# Altium schematic symbol library WE-PDA.SchLib: 53 symbols
Pins are listed as number, name and electrical type; pins without a type are passive.

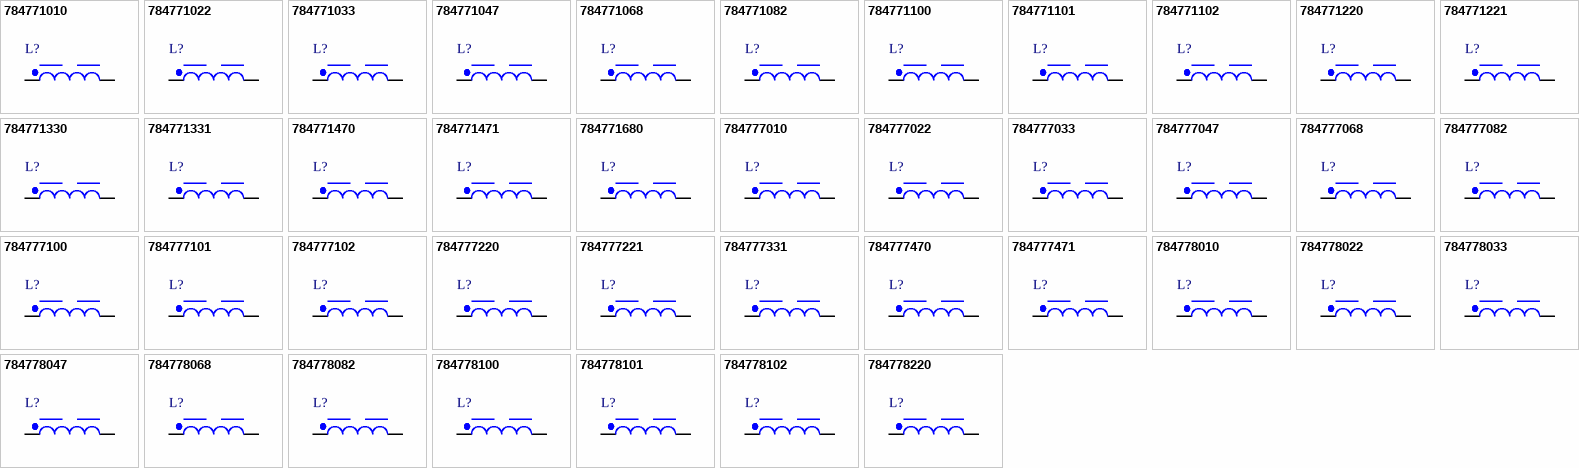
[diagram p0: symbols 784771010 to 784778220]

## 784771010
designator L?, comment 1uH  (value not drawn)
WE-PDA SMT Shielded Power Inductor, size 1260, 1uH, 9A, 8.5mOhm; Manufacturer Part Number: 784771010; Manufacturer: Wurth Elektronik; Case/Size Code: 1260; Saturation Current: 16.5A; Self Resonant Frequency: 139.4MHz; Category: Power Inductors; Match Code: WE-PDA; ComponentLink1Description: Website Link; ComponentLink1URL: https://www.we-online.com/redexpert/article/784771010?ad; ComponentLink2Description: Datasheet Link; ComponentLink2URL: https://www.we-online.com/redexpert/spec/784771010?ad; Mount: Surface Mount; Min Operating Temperature: -40°C; Max Operating Temperature: 125°C; Packaging: Tape and Reel; Length: 12mm; Width: 12mm; Height: 6mm; DC Resistance Max: 8.5mOhm; Inductance: 1uH; Rated Current: 9A
footprint WE-PDA_1260
simulation model 1260_784771010_1u
pins: 1, 2

## 784771022
designator L?, comment 2.2uH  (value not drawn)
WE-PDA SMT Shielded Power Inductor, size 1260, 2.2uH, 7.2A, 12.5mOhm; Manufacturer Part Number: 784771022; Manufacturer: Wurth Elektronik; Case/Size Code: 1260; Saturation Current: 10.5A; Self Resonant Frequency: 82.7MHz; Category: Power Inductors; Match Code: WE-PDA; ComponentLink1Description: Website Link; ComponentLink1URL: https://www.we-online.com/redexpert/article/784771022?ad; ComponentLink2Description: Datasheet Link; ComponentLink2URL: https://www.we-online.com/redexpert/spec/784771022?ad; Mount: Surface Mount; Min Operating Temperature: -40°C; Max Operating Temperature: 125°C; Packaging: Tape and Reel; Length: 12mm; Width: 12mm; Height: 6mm; DC Resistance Max: 12.5mOhm; Inductance: 2.2uH; Rated Current: 7.2A
footprint WE-PDA_1260
simulation model 1260_784771022_2.2u
pins: 1, 2

## 784771033
designator L?, comment 3.3uH  (value not drawn)
WE-PDA SMT Shielded Power Inductor, size 1260, 3.3uH, 6.5A, 14.5mOhm; Manufacturer Part Number: 784771033; Manufacturer: Wurth Elektronik; Case/Size Code: 1260; Saturation Current: 9A; Self Resonant Frequency: 68.1MHz; Category: Power Inductors; Match Code: WE-PDA; ComponentLink1Description: Website Link; ComponentLink1URL: https://www.we-online.com/redexpert/article/784771033?ad; ComponentLink2Description: Datasheet Link; ComponentLink2URL: https://www.we-online.com/redexpert/spec/784771033?ad; Mount: Surface Mount; Min Operating Temperature: -40°C; Max Operating Temperature: 125°C; Packaging: Tape and Reel; Length: 12mm; Width: 12mm; Height: 6mm; DC Resistance Max: 14.5mOhm; Inductance: 3.3uH; Rated Current: 6.5A
footprint WE-PDA_1260
simulation model 1260_784771033_3.3u
pins: 1, 2

## 784771047
designator L?, comment 4.7uH  (value not drawn)
WE-PDA SMT Shielded Power Inductor, size 1260, 4.7uH, 6.2A, 17.5mOhm; Manufacturer Part Number: 784771047; Manufacturer: Wurth Elektronik; Case/Size Code: 1260; Saturation Current: 8A; Self Resonant Frequency: 49.8MHz; Category: Power Inductors; Match Code: WE-PDA; ComponentLink1Description: Website Link; ComponentLink1URL: https://www.we-online.com/redexpert/article/784771047?ad; ComponentLink2Description: Datasheet Link; ComponentLink2URL: https://www.we-online.com/redexpert/spec/784771047?ad; Mount: Surface Mount; Min Operating Temperature: -40°C; Max Operating Temperature: 125°C; Packaging: Tape and Reel; Length: 12mm; Width: 12mm; Height: 6mm; DC Resistance Max: 17.5mOhm; Inductance: 4.7uH; Rated Current: 6.2A
footprint WE-PDA_1260
simulation model 1260_784771047_4.7u
pins: 1, 2

## 784771068
designator L?, comment 6.8uH  (value not drawn)
WE-PDA SMT Shielded Power Inductor, size 1260, 6.8uH, 5.5A, 21.5mOhm; Manufacturer Part Number: 784771068; Manufacturer: Wurth Elektronik; Case/Size Code: 1260; Saturation Current: 6A; Self Resonant Frequency: 25.5MHz; Category: Power Inductors; Match Code: WE-PDA; ComponentLink1Description: Website Link; ComponentLink1URL: https://www.we-online.com/redexpert/article/784771068?ad; ComponentLink2Description: Datasheet Link; ComponentLink2URL: https://www.we-online.com/redexpert/spec/784771068?ad; Mount: Surface Mount; Min Operating Temperature: -40°C; Max Operating Temperature: 125°C; Packaging: Tape and Reel; Length: 12mm; Width: 12mm; Height: 6mm; DC Resistance Max: 21.5mOhm; Inductance: 6.8uH; Rated Current: 5.5A
footprint WE-PDA_1260
simulation model 1260_784771068_6.8u
pins: 1, 2

## 784771082
designator L?, comment 8.2uH  (value not drawn)
WE-PDA SMT Shielded Power Inductor, size 1260, 8.2uH, 5.05A, 24mOhm; Manufacturer Part Number: 784771082; Manufacturer: Wurth Elektronik; Case/Size Code: 1260; Saturation Current: 5.5A; Self Resonant Frequency: 25.2MHz; Category: Power Inductors; Match Code: WE-PDA; ComponentLink1Description: Website Link; ComponentLink1URL: https://www.we-online.com/redexpert/article/784771082?ad; ComponentLink2Description: Datasheet Link; ComponentLink2URL: https://www.we-online.com/redexpert/spec/784771082?ad; Mount: Surface Mount; Min Operating Temperature: -40°C; Max Operating Temperature: 125°C; Packaging: Tape and Reel; Length: 12mm; Width: 12mm; Height: 6mm; DC Resistance Max: 24mOhm; Inductance: 8.2uH; Rated Current: 5.05A
footprint WE-PDA_1260
simulation model 1260_784771082_8.2u
pins: 1, 2

## 784771100
designator L?, comment 10uH  (value not drawn)
WE-PDA SMT Shielded Power Inductor, size 1260, 10uH, 5A, 26.5mOhm; Manufacturer Part Number: 784771100; Manufacturer: Wurth Elektronik; Case/Size Code: 1260; Saturation Current: 5.25A; Self Resonant Frequency: 22.3MHz; Category: Power Inductors; Match Code: WE-PDA; ComponentLink1Description: Website Link; ComponentLink1URL: https://www.we-online.com/redexpert/article/784771100?ad; ComponentLink2Description: Datasheet Link; ComponentLink2URL: https://www.we-online.com/redexpert/spec/784771100?ad; Mount: Surface Mount; Min Operating Temperature: -40°C; Max Operating Temperature: 125°C; Packaging: Tape and Reel; Length: 12mm; Width: 12mm; Height: 6mm; DC Resistance Max: 26.5mOhm; Inductance: 10uH; Rated Current: 5A
footprint WE-PDA_1260
simulation model 1260_784771100_10u
pins: 1, 2

## 784771101
designator L?, comment 100uH  (value not drawn)
WE-PDA SMT Shielded Power Inductor, size 1260, 100uH, 1.5A, 174mOhm; Manufacturer Part Number: 784771101; Manufacturer: Wurth Elektronik; Case/Size Code: 1260; Saturation Current: 1.7A; Self Resonant Frequency: 6.5MHz; Category: Power Inductors; Match Code: WE-PDA; ComponentLink1Description: Website Link; ComponentLink1URL: https://www.we-online.com/redexpert/article/784771101?ad; ComponentLink2Description: Datasheet Link; ComponentLink2URL: https://www.we-online.com/redexpert/spec/784771101?ad; Mount: Surface Mount; Min Operating Temperature: -40°C; Max Operating Temperature: 125°C; Packaging: Tape and Reel; Length: 12mm; Width: 12mm; Height: 6mm; DC Resistance Max: 174mOhm; Inductance: 100uH; Rated Current: 1.5A
footprint WE-PDA_1260
simulation model 1260_784771101_100u
pins: 1, 2

## 784771102
designator L?, comment 1000uH  (value not drawn)
WE-PDA SMT Shielded Power Inductor, size 1260, 1000uH, 0.48A, 1705mOhm; Manufacturer Part Number: 784771102; Manufacturer: Wurth Elektronik; Case/Size Code: 1260; Saturation Current: 0.53A; Self Resonant Frequency: 1.9MHz; Category: Power Inductors; Match Code: WE-PDA; ComponentLink1Description: Website Link; ComponentLink1URL: https://www.we-online.com/redexpert/article/784771102?ad; ComponentLink2Description: Datasheet Link; ComponentLink2URL: https://www.we-online.com/redexpert/spec/784771102?ad; Mount: Surface Mount; Min Operating Temperature: -40°C; Max Operating Temperature: 125°C; Packaging: Tape and Reel; Length: 12mm; Width: 12mm; Height: 6mm; DC Resistance Max: 1705mOhm; Inductance: 1000uH; Rated Current: 0.48A
footprint WE-PDA_1260
simulation model 1260_784771102_1000u
pins: 1, 2

## 784771220
designator L?, comment 22uH  (value not drawn)
WE-PDA SMT Shielded Power Inductor, size 1260, 22uH, 3.2A, 40mOhm; Manufacturer Part Number: 784771220; Manufacturer: Wurth Elektronik; Case/Size Code: 1260; Saturation Current: 3.5A; Self Resonant Frequency: 14.9MHz; Category: Power Inductors; Match Code: WE-PDA; ComponentLink1Description: Website Link; ComponentLink1URL: https://www.we-online.com/redexpert/article/784771220?ad; ComponentLink2Description: Datasheet Link; ComponentLink2URL: https://www.we-online.com/redexpert/spec/784771220?ad; Mount: Surface Mount; Min Operating Temperature: -40°C; Max Operating Temperature: 125°C; Packaging: Tape and Reel; Length: 12mm; Width: 12mm; Height: 6mm; DC Resistance Max: 40mOhm; Inductance: 22uH; Rated Current: 3.2A
footprint WE-PDA_1260
simulation model 1260_784771220_22u
pins: 1, 2

## 784771221
designator L?, comment 220uH  (value not drawn)
WE-PDA SMT Shielded Power Inductor, size 1260, 220uH, 0.99A, 348mOhm; Manufacturer Part Number: 784771221; Manufacturer: Wurth Elektronik; Case/Size Code: 1260; Saturation Current: 1.1A; Self Resonant Frequency: 3.9MHz; Category: Power Inductors; Match Code: WE-PDA; ComponentLink1Description: Website Link; ComponentLink1URL: https://www.we-online.com/redexpert/article/784771221?ad; ComponentLink2Description: Datasheet Link; ComponentLink2URL: https://www.we-online.com/redexpert/spec/784771221?ad; Mount: Surface Mount; Min Operating Temperature: -40°C; Max Operating Temperature: 125°C; Packaging: Tape and Reel; Length: 12mm; Width: 12mm; Height: 6mm; DC Resistance Max: 348mOhm; Inductance: 220uH; Rated Current: 0.99A
footprint WE-PDA_1260
simulation model 1260_784771221_220u
pins: 1, 2

## 784771330
designator L?, comment 33uH  (value not drawn)
WE-PDA SMT Shielded Power Inductor, size 1260, 33uH, 2.8A, 62.5mOhm; Manufacturer Part Number: 784771330; Manufacturer: Wurth Elektronik; Case/Size Code: 1260; Saturation Current: 2.9A; Self Resonant Frequency: 11.5MHz; Category: Power Inductors; Match Code: WE-PDA; ComponentLink1Description: Website Link; ComponentLink1URL: https://www.we-online.com/redexpert/article/784771330?ad; ComponentLink2Description: Datasheet Link; ComponentLink2URL: https://www.we-online.com/redexpert/spec/784771330?ad; Mount: Surface Mount; Min Operating Temperature: -40°C; Max Operating Temperature: 125°C; Packaging: Tape and Reel; Length: 12mm; Width: 12mm; Height: 6mm; DC Resistance Max: 62.5mOhm; Inductance: 33uH; Rated Current: 2.8A
footprint WE-PDA_1260
simulation model 1260_784771330_33u
pins: 1, 2

## 784771331
designator L?, comment 330uH  (value not drawn)
WE-PDA SMT Shielded Power Inductor, size 1260, 330uH, 0.8A, 594mOhm; Manufacturer Part Number: 784771331; Manufacturer: Wurth Elektronik; Case/Size Code: 1260; Saturation Current: 0.9A; Self Resonant Frequency: 3.3MHz; Category: Power Inductors; Match Code: WE-PDA; ComponentLink1Description: Website Link; ComponentLink1URL: https://www.we-online.com/redexpert/article/784771331?ad; ComponentLink2Description: Datasheet Link; ComponentLink2URL: https://www.we-online.com/redexpert/spec/784771331?ad; Mount: Surface Mount; Min Operating Temperature: -40°C; Max Operating Temperature: 125°C; Packaging: Tape and Reel; Length: 12mm; Width: 12mm; Height: 6mm; DC Resistance Max: 594mOhm; Inductance: 330uH; Rated Current: 0.8A
footprint WE-PDA_1260
simulation model 1260_784771331_330u
pins: 1, 2

## 784771470
designator L?, comment 47uH  (value not drawn)
WE-PDA SMT Shielded Power Inductor, size 1260, 47uH, 2.3A, 77mOhm; Manufacturer Part Number: 784771470; Manufacturer: Wurth Elektronik; Case/Size Code: 1260; Saturation Current: 2.5A; Self Resonant Frequency: 10.1MHz; Category: Power Inductors; Match Code: WE-PDA; ComponentLink1Description: Website Link; ComponentLink1URL: https://www.we-online.com/redexpert/article/784771470?ad; ComponentLink2Description: Datasheet Link; ComponentLink2URL: https://www.we-online.com/redexpert/spec/784771470?ad; Mount: Surface Mount; Min Operating Temperature: -40°C; Max Operating Temperature: 125°C; Packaging: Tape and Reel; Length: 12mm; Width: 12mm; Height: 6mm; DC Resistance Max: 77mOhm; Inductance: 47uH; Rated Current: 2.3A
footprint WE-PDA_1260
simulation model 1260_784771470_47u
pins: 1, 2

## 784771471
designator L?, comment 470uH  (value not drawn)
WE-PDA SMT Shielded Power Inductor, size 1260, 470uH, 0.65A, 706mOhm; Manufacturer Part Number: 784771471; Manufacturer: Wurth Elektronik; Case/Size Code: 1260; Saturation Current: 0.75A; Self Resonant Frequency: 2.9MHz; Category: Power Inductors; Match Code: WE-PDA; ComponentLink1Description: Website Link; ComponentLink1URL: https://www.we-online.com/redexpert/article/784771471?ad; ComponentLink2Description: Datasheet Link; ComponentLink2URL: https://www.we-online.com/redexpert/spec/784771471?ad; Mount: Surface Mount; Min Operating Temperature: -40°C; Max Operating Temperature: 125°C; Packaging: Tape and Reel; Length: 12mm; Width: 12mm; Height: 6mm; DC Resistance Max: 706mOhm; Inductance: 470uH; Rated Current: 0.65A
footprint WE-PDA_1260
simulation model 1260_784771471_470u
pins: 1, 2

## 784771680
designator L?, comment 68uH  (value not drawn)
WE-PDA SMT Shielded Power Inductor, size 1260, 68uH, 1.8A, 138mOhm; Manufacturer Part Number: 784771680; Manufacturer: Wurth Elektronik; Case/Size Code: 1260; Saturation Current: 2A; Self Resonant Frequency: 8MHz; Category: Power Inductors; Match Code: WE-PDA; ComponentLink1Description: Website Link; ComponentLink1URL: https://www.we-online.com/redexpert/article/784771680?ad; ComponentLink2Description: Datasheet Link; ComponentLink2URL: https://www.we-online.com/redexpert/spec/784771680?ad; Mount: Surface Mount; Min Operating Temperature: -40°C; Max Operating Temperature: 125°C; Packaging: Tape and Reel; Length: 12mm; Width: 12mm; Height: 6mm; DC Resistance Max: 138mOhm; Inductance: 68uH; Rated Current: 1.8A
footprint WE-PDA_1260
simulation model 1260_784771680_68u
pins: 1, 2

## 784777010
designator L?, comment 1uH  (value not drawn)
WE-PDA SMT Shielded Power Inductor, size 7345, 1uH, 3.7A, 38.5mOhm; Manufacturer Part Number: 784777010; Manufacturer: Wurth Elektronik; Case/Size Code: 7345; Saturation Current: 8A; Self Resonant Frequency: 195MHz; Category: Power Inductors; Match Code: WE-PDA; ComponentLink1Description: Website Link; ComponentLink1URL: https://www.we-online.com/redexpert/article/784777010?ad; ComponentLink2Description: Datasheet Link; ComponentLink2URL: https://www.we-online.com/redexpert/spec/784777010?ad; Mount: Surface Mount; Min Operating Temperature: -40°C; Max Operating Temperature: 125°C; Packaging: Tape and Reel; Length: 7.3mm; Width: 7.3mm; Height: 4mm; DC Resistance Max: 38.5mOhm; Inductance: 1uH; Rated Current: 3.7A
footprint WE-PDA_7345
simulation model 7345_784777010_1u
pins: 1, 2

## 784777022
designator L?, comment 2.2uH  (value not drawn)
WE-PDA SMT Shielded Power Inductor, size 7345, 2.2uH, 2.7A, 61mOhm; Manufacturer Part Number: 784777022; Manufacturer: Wurth Elektronik; Case/Size Code: 7345; Saturation Current: 5.25A; Self Resonant Frequency: 95.2MHz; Category: Power Inductors; Match Code: WE-PDA; ComponentLink1Description: Website Link; ComponentLink1URL: https://www.we-online.com/redexpert/article/784777022?ad; ComponentLink2Description: Datasheet Link; ComponentLink2URL: https://www.we-online.com/redexpert/spec/784777022?ad; Mount: Surface Mount; Min Operating Temperature: -40°C; Max Operating Temperature: 125°C; Packaging: Tape and Reel; Length: 7.3mm; Width: 7.3mm; Height: 4mm; DC Resistance Max: 61mOhm; Inductance: 2.2uH; Rated Current: 2.7A
footprint WE-PDA_7345
simulation model 7345_784777022_2.2u
pins: 1, 2

## 784777033
designator L?, comment 3.3uH  (value not drawn)
WE-PDA SMT Shielded Power Inductor, size 7345, 3.3uH, 2.5A, 70mOhm; Manufacturer Part Number: 784777033; Manufacturer: Wurth Elektronik; Case/Size Code: 7345; Saturation Current: 4.7A; Self Resonant Frequency: 87.5MHz; Category: Power Inductors; Match Code: WE-PDA; ComponentLink1Description: Website Link; ComponentLink1URL: https://www.we-online.com/redexpert/article/784777033?ad; ComponentLink2Description: Datasheet Link; ComponentLink2URL: https://www.we-online.com/redexpert/spec/784777033?ad; Mount: Surface Mount; Min Operating Temperature: -40°C; Max Operating Temperature: 125°C; Packaging: Tape and Reel; Length: 7.3mm; Width: 7.3mm; Height: 4mm; DC Resistance Max: 70mOhm; Inductance: 3.3uH; Rated Current: 2.5A
footprint WE-PDA_7345
simulation model 7345_784777033_3.3u
pins: 1, 2

## 784777047
designator L?, comment 4.7uH  (value not drawn)
WE-PDA SMT Shielded Power Inductor, size 7345, 4.7uH, 2.35A, 84mOhm; Manufacturer Part Number: 784777047; Manufacturer: Wurth Elektronik; Case/Size Code: 7345; Saturation Current: 3.7A; Self Resonant Frequency: 64.7MHz; Category: Power Inductors; Match Code: WE-PDA; ComponentLink1Description: Website Link; ComponentLink1URL: https://www.we-online.com/redexpert/article/784777047?ad; ComponentLink2Description: Datasheet Link; ComponentLink2URL: https://www.we-online.com/redexpert/spec/784777047?ad; Mount: Surface Mount; Min Operating Temperature: -40°C; Max Operating Temperature: 125°C; Packaging: Tape and Reel; Length: 7.3mm; Width: 7.3mm; Height: 4mm; DC Resistance Max: 84mOhm; Inductance: 4.7uH; Rated Current: 2.35A
footprint WE-PDA_7345
simulation model 7345_784777047_4.7u
pins: 1, 2

## 784777068
designator L?, comment 6.8uH  (value not drawn)
WE-PDA SMT Shielded Power Inductor, size 7345, 6.8uH, 2.2A, 98mOhm; Manufacturer Part Number: 784777068; Manufacturer: Wurth Elektronik; Case/Size Code: 7345; Saturation Current: 3.2A; Self Resonant Frequency: 47.3MHz; Category: Power Inductors; Match Code: WE-PDA; ComponentLink1Description: Website Link; ComponentLink1URL: https://www.we-online.com/redexpert/article/784777068?ad; ComponentLink2Description: Datasheet Link; ComponentLink2URL: https://www.we-online.com/redexpert/spec/784777068?ad; Mount: Surface Mount; Min Operating Temperature: -40°C; Max Operating Temperature: 125°C; Packaging: Tape and Reel; Length: 7.3mm; Width: 7.3mm; Height: 4mm; DC Resistance Max: 98mOhm; Inductance: 6.8uH; Rated Current: 2.2A
footprint WE-PDA_7345
simulation model 7345_784777068_6.8u
pins: 1, 2

## 784777082
designator L?, comment 8.2uH  (value not drawn)
WE-PDA SMT Shielded Power Inductor, size 7345, 8.2uH, 2A, 117mOhm; Manufacturer Part Number: 784777082; Manufacturer: Wurth Elektronik; Case/Size Code: 7345; Saturation Current: 2.8A; Self Resonant Frequency: 36.7MHz; Category: Power Inductors; Match Code: WE-PDA; ComponentLink1Description: Website Link; ComponentLink1URL: https://www.we-online.com/redexpert/article/784777082?ad; ComponentLink2Description: Datasheet Link; ComponentLink2URL: https://www.we-online.com/redexpert/spec/784777082?ad; Mount: Surface Mount; Min Operating Temperature: -40°C; Max Operating Temperature: 125°C; Packaging: Tape and Reel; Length: 7.3mm; Width: 7.3mm; Height: 4mm; DC Resistance Max: 117mOhm; Inductance: 8.2uH; Rated Current: 2A
footprint WE-PDA_7345
simulation model 7345_784777082_8.2u
pins: 1, 2

## 784777100
designator L?, comment 10uH  (value not drawn)
WE-PDA SMT Shielded Power Inductor, size 7345, 10uH, 1.9A, 126mOhm; Manufacturer Part Number: 784777100; Manufacturer: Wurth Elektronik; Case/Size Code: 7345; Saturation Current: 2.6A; Self Resonant Frequency: 32.5MHz; Category: Power Inductors; Match Code: WE-PDA; ComponentLink1Description: Website Link; ComponentLink1URL: https://www.we-online.com/redexpert/article/784777100?ad; ComponentLink2Description: Datasheet Link; ComponentLink2URL: https://www.we-online.com/redexpert/spec/784777100?ad; Mount: Surface Mount; Min Operating Temperature: -40°C; Max Operating Temperature: 125°C; Packaging: Tape and Reel; Length: 7.3mm; Width: 7.3mm; Height: 4mm; DC Resistance Max: 126mOhm; Inductance: 10uH; Rated Current: 1.9A
footprint WE-PDA_7345
simulation model 7345_784777100_10u
pins: 1, 2

## 784777101
designator L?, comment 100uH  (value not drawn)
WE-PDA SMT Shielded Power Inductor, size 7345, 100uH, 0.72A, 470mOhm; Manufacturer Part Number: 784777101; Manufacturer: Wurth Elektronik; Case/Size Code: 7345; Saturation Current: 0.8A; Self Resonant Frequency: 7.5MHz; Category: Power Inductors; Match Code: WE-PDA; ComponentLink1Description: Website Link; ComponentLink1URL: https://www.we-online.com/redexpert/article/784777101?ad; ComponentLink2Description: Datasheet Link; ComponentLink2URL: https://www.we-online.com/redexpert/spec/784777101?ad; Mount: Surface Mount; Min Operating Temperature: -40°C; Max Operating Temperature: 125°C; Packaging: Tape and Reel; Length: 7.3mm; Width: 7.3mm; Height: 4mm; DC Resistance Max: 470mOhm; Inductance: 100uH; Rated Current: 0.72A
footprint WE-PDA_7345
simulation model 7345_784777101_100u
pins: 1, 2

## 784777102
designator L?, comment 1000uH  (value not drawn)
WE-PDA SMT Shielded Power Inductor, size 7345, 1000uH, 0.25A, 5750mOhm; Manufacturer Part Number: 784777102; Manufacturer: Wurth Elektronik; Case/Size Code: 7345; Saturation Current: 0.28A; Self Resonant Frequency: 2MHz; Category: Power Inductors; Match Code: WE-PDA; ComponentLink1Description: Website Link; ComponentLink1URL: https://www.we-online.com/redexpert/article/784777102?ad; ComponentLink2Description: Datasheet Link; ComponentLink2URL: https://www.we-online.com/redexpert/spec/784777102?ad; Mount: Surface Mount; Min Operating Temperature: -40°C; Max Operating Temperature: 125°C; Packaging: Tape and Reel; Length: 7.3mm; Width: 7.3mm; Height: 4mm; DC Resistance Max: 5750mOhm; Inductance: 1000uH; Rated Current: 0.25A
footprint WE-PDA_7345
simulation model 7345_784777102_1000u
pins: 1, 2

## 784777220
designator L?, comment 22uH  (value not drawn)
WE-PDA SMT Shielded Power Inductor, size 7345, 22uH, 1.4A, 215mOhm; Manufacturer Part Number: 784777220; Manufacturer: Wurth Elektronik; Case/Size Code: 7345; Saturation Current: 1.8A; Self Resonant Frequency: 18.5MHz; Category: Power Inductors; Match Code: WE-PDA; ComponentLink1Description: Website Link; ComponentLink1URL: https://www.we-online.com/redexpert/article/784777220?ad; ComponentLink2Description: Datasheet Link; ComponentLink2URL: https://www.we-online.com/redexpert/spec/784777220?ad; Mount: Surface Mount; Min Operating Temperature: -40°C; Max Operating Temperature: 125°C; Packaging: Tape and Reel; Length: 7.3mm; Width: 7.3mm; Height: 4mm; DC Resistance Max: 215mOhm; Inductance: 22uH; Rated Current: 1.4A
footprint WE-PDA_7345
simulation model 7345_784777220_22u
pins: 1, 2

## 784777221
designator L?, comment 220uH  (value not drawn)
WE-PDA SMT Shielded Power Inductor, size 7345, 220uH, 0.5A, 1135mOhm; Manufacturer Part Number: 784777221; Manufacturer: Wurth Elektronik; Case/Size Code: 7345; Saturation Current: 0.55A; Self Resonant Frequency: 3.9MHz; Category: Power Inductors; Match Code: WE-PDA; ComponentLink1Description: Website Link; ComponentLink1URL: https://www.we-online.com/redexpert/article/784777221?ad; ComponentLink2Description: Datasheet Link; ComponentLink2URL: https://www.we-online.com/redexpert/spec/784777221?ad; Mount: Surface Mount; Min Operating Temperature: -40°C; Max Operating Temperature: 125°C; Packaging: Tape and Reel; Length: 7.3mm; Width: 7.3mm; Height: 4mm; DC Resistance Max: 1135mOhm; Inductance: 220uH; Rated Current: 0.5A
footprint WE-PDA_7345
simulation model 7345_784777221_220u
pins: 1, 2

## 784777331
designator L?, comment 330uH  (value not drawn)
WE-PDA SMT Shielded Power Inductor, size 7345, 330uH, 0.4A, 1872mOhm; Manufacturer Part Number: 784777331; Manufacturer: Wurth Elektronik; Case/Size Code: 7345; Saturation Current: 0.45A; Self Resonant Frequency: 4.2MHz; Category: Power Inductors; Match Code: WE-PDA; ComponentLink1Description: Website Link; ComponentLink1URL: https://www.we-online.com/redexpert/article/784777331?ad; ComponentLink2Description: Datasheet Link; ComponentLink2URL: https://www.we-online.com/redexpert/spec/784777331?ad; Mount: Surface Mount; Min Operating Temperature: -40°C; Max Operating Temperature: 125°C; Packaging: Tape and Reel; Length: 7.3mm; Width: 7.3mm; Height: 4mm; DC Resistance Max: 1872mOhm; Inductance: 330uH; Rated Current: 0.4A
footprint WE-PDA_7345
simulation model 7345_784777331_330u
pins: 1, 2

## 784777470
designator L?, comment 47uH  (value not drawn)
WE-PDA SMT Shielded Power Inductor, size 7345, 47uH, 1.15A, 300mOhm; Manufacturer Part Number: 784777470; Manufacturer: Wurth Elektronik; Case/Size Code: 7345; Saturation Current: 1.25A; Self Resonant Frequency: 10MHz; Category: Power Inductors; Match Code: WE-PDA; ComponentLink1Description: Website Link; ComponentLink1URL: https://www.we-online.com/redexpert/article/784777470?ad; ComponentLink2Description: Datasheet Link; ComponentLink2URL: https://www.we-online.com/redexpert/spec/784777470?ad; Mount: Surface Mount; Min Operating Temperature: -40°C; Max Operating Temperature: 125°C; Packaging: Tape and Reel; Length: 7.3mm; Width: 7.3mm; Height: 4mm; DC Resistance Max: 300mOhm; Inductance: 47uH; Rated Current: 1.15A
footprint WE-PDA_7345
simulation model 7345_784777470_47u
pins: 1, 2

## 784777471
designator L?, comment 470uH  (value not drawn)
WE-PDA SMT Shielded Power Inductor, size 7345, 470uH, 0.35A, 2720mOhm; Manufacturer Part Number: 784777471; Manufacturer: Wurth Elektronik; Case/Size Code: 7345; Saturation Current: 0.38A; Self Resonant Frequency: 2.9MHz; Category: Power Inductors; Match Code: WE-PDA; ComponentLink1Description: Website Link; ComponentLink1URL: https://www.we-online.com/redexpert/article/784777471?ad; ComponentLink2Description: Datasheet Link; ComponentLink2URL: https://www.we-online.com/redexpert/spec/784777471?ad; Mount: Surface Mount; Min Operating Temperature: -40°C; Max Operating Temperature: 125°C; Packaging: Tape and Reel; Length: 7.3mm; Width: 7.3mm; Height: 4mm; DC Resistance Max: 2720mOhm; Inductance: 470uH; Rated Current: 0.35A
footprint WE-PDA_7345
simulation model 7345_784777471_470u
pins: 1, 2

## 784778010
designator L?, comment 1uH  (value not drawn)
WE-PDA SMT Shielded Power Inductor, size 7332, 1uH, 3.5A, 36mOhm; Manufacturer Part Number: 784778010; Manufacturer: Wurth Elektronik; Case/Size Code: 7332; Saturation Current: 7A; Self Resonant Frequency: 183.7MHz; Category: Power Inductors; Match Code: WE-PDA; ComponentLink1Description: Website Link; ComponentLink1URL: https://www.we-online.com/redexpert/article/784778010?ad; ComponentLink2Description: Datasheet Link; ComponentLink2URL: https://www.we-online.com/redexpert/spec/784778010?ad; Mount: Surface Mount; Min Operating Temperature: -40°C; Max Operating Temperature: 125°C; Packaging: Tape and Reel; Length: 7.3mm; Width: 7.3mm; Height: 3.2mm; DC Resistance Max: 36mOhm; Inductance: 1uH; Rated Current: 3.5A
footprint WE-PDA_7332
simulation model 7332_784778010_1u
pins: 1, 2

## 784778022
designator L?, comment 2.2uH  (value not drawn)
WE-PDA SMT Shielded Power Inductor, size 7332, 2.2uH, 3.1A, 50mOhm; Manufacturer Part Number: 784778022; Manufacturer: Wurth Elektronik; Case/Size Code: 7332; Saturation Current: 5A; Self Resonant Frequency: 110.5MHz; Category: Power Inductors; Match Code: WE-PDA; ComponentLink1Description: Website Link; ComponentLink1URL: https://www.we-online.com/redexpert/article/784778022?ad; ComponentLink2Description: Datasheet Link; ComponentLink2URL: https://www.we-online.com/redexpert/spec/784778022?ad; Mount: Surface Mount; Min Operating Temperature: -40°C; Max Operating Temperature: 125°C; Packaging: Tape and Reel; Length: 7.3mm; Width: 7.3mm; Height: 3.2mm; DC Resistance Max: 50mOhm; Inductance: 2.2uH; Rated Current: 3.1A
footprint WE-PDA_7332
simulation model 7332_784778022_2.2u
pins: 1, 2

## 784778033
designator L?, comment 3.3uH  (value not drawn)
WE-PDA SMT Shielded Power Inductor, size 7332, 3.3uH, 2.65A, 65mOhm; Manufacturer Part Number: 784778033; Manufacturer: Wurth Elektronik; Case/Size Code: 7332; Saturation Current: 3.7A; Self Resonant Frequency: 71.3MHz; Category: Power Inductors; Match Code: WE-PDA; ComponentLink1Description: Website Link; ComponentLink1URL: https://www.we-online.com/redexpert/article/784778033?ad; ComponentLink2Description: Datasheet Link; ComponentLink2URL: https://www.we-online.com/redexpert/spec/784778033?ad; Mount: Surface Mount; Min Operating Temperature: -40°C; Max Operating Temperature: 125°C; Packaging: Tape and Reel; Length: 7.3mm; Width: 7.3mm; Height: 3.2mm; DC Resistance Max: 65mOhm; Inductance: 3.3uH; Rated Current: 2.65A
footprint WE-PDA_7332
simulation model 7332_784778033_3.3u
pins: 1, 2

## 784778047
designator L?, comment 4.7uH  (value not drawn)
WE-PDA SMT Shielded Power Inductor, size 7332, 4.7uH, 2.4A, 79mOhm; Manufacturer Part Number: 784778047; Manufacturer: Wurth Elektronik; Case/Size Code: 7332; Saturation Current: 3.1A; Self Resonant Frequency: 52MHz; Category: Power Inductors; Match Code: WE-PDA; ComponentLink1Description: Website Link; ComponentLink1URL: https://www.we-online.com/redexpert/article/784778047?ad; ComponentLink2Description: Datasheet Link; ComponentLink2URL: https://www.we-online.com/redexpert/spec/784778047?ad; Mount: Surface Mount; Min Operating Temperature: -40°C; Max Operating Temperature: 125°C; Packaging: Tape and Reel; Length: 7.3mm; Width: 7.3mm; Height: 3.2mm; DC Resistance Max: 79mOhm; Inductance: 4.7uH; Rated Current: 2.4A
footprint WE-PDA_7332
simulation model 7332_784778047_4.7u
pins: 1, 2

## 784778068
designator L?, comment 6.8uH  (value not drawn)
WE-PDA SMT Shielded Power Inductor, size 7332, 6.8uH, 2.3A, 94mOhm; Manufacturer Part Number: 784778068; Manufacturer: Wurth Elektronik; Case/Size Code: 7332; Saturation Current: 2.5A; Self Resonant Frequency: 40.7MHz; Category: Power Inductors; Match Code: WE-PDA; ComponentLink1Description: Website Link; ComponentLink1URL: https://www.we-online.com/redexpert/article/784778068?ad; ComponentLink2Description: Datasheet Link; ComponentLink2URL: https://www.we-online.com/redexpert/spec/784778068?ad; Mount: Surface Mount; Min Operating Temperature: -40°C; Max Operating Temperature: 125°C; Packaging: Tape and Reel; Length: 7.3mm; Width: 7.3mm; Height: 3.2mm; DC Resistance Max: 94mOhm; Inductance: 6.8uH; Rated Current: 2.3A
footprint WE-PDA_7332
simulation model 7332_784778068_6.8u
pins: 1, 2

## 784778082
designator L?, comment 8.2uH  (value not drawn)
WE-PDA SMT Shielded Power Inductor, size 7332, 8.2uH, 2.2A, 103mOhm; Manufacturer Part Number: 784778082; Manufacturer: Wurth Elektronik; Case/Size Code: 7332; Saturation Current: 2.4A; Self Resonant Frequency: 36.9MHz; Category: Power Inductors; Match Code: WE-PDA; ComponentLink1Description: Website Link; ComponentLink1URL: https://www.we-online.com/redexpert/article/784778082?ad; ComponentLink2Description: Datasheet Link; ComponentLink2URL: https://www.we-online.com/redexpert/spec/784778082?ad; Mount: Surface Mount; Min Operating Temperature: -40°C; Max Operating Temperature: 125°C; Packaging: Tape and Reel; Length: 7.3mm; Width: 7.3mm; Height: 3.2mm; DC Resistance Max: 103mOhm; Inductance: 8.2uH; Rated Current: 2.2A
footprint WE-PDA_7332
simulation model 7332_784778082_8.2u
pins: 1, 2

## 784778100
designator L?, comment 10uH  (value not drawn)
WE-PDA SMT Shielded Power Inductor, size 7332, 10uH, 1.85A, 126mOhm; Manufacturer Part Number: 784778100; Manufacturer: Wurth Elektronik; Case/Size Code: 7332; Saturation Current: 2.2A; Self Resonant Frequency: 34.1MHz; Category: Power Inductors; Match Code: WE-PDA; ComponentLink1Description: Website Link; ComponentLink1URL: https://www.we-online.com/redexpert/article/784778100?ad; ComponentLink2Description: Datasheet Link; ComponentLink2URL: https://www.we-online.com/redexpert/spec/784778100?ad; Mount: Surface Mount; Min Operating Temperature: -40°C; Max Operating Temperature: 125°C; Packaging: Tape and Reel; Length: 7.3mm; Width: 7.3mm; Height: 3.2mm; DC Resistance Max: 126mOhm; Inductance: 10uH; Rated Current: 1.85A
footprint WE-PDA_7332
simulation model 7332_784778100_10u
pins: 1, 2

## 784778101
designator L?, comment 100uH  (value not drawn)
WE-PDA SMT Shielded Power Inductor, size 7332, 100uH, 0.72A, 720mOhm; Manufacturer Part Number: 784778101; Manufacturer: Wurth Elektronik; Case/Size Code: 7332; Saturation Current: 0.75A; Self Resonant Frequency: 9.7MHz; Category: Power Inductors; Match Code: WE-PDA; ComponentLink1Description: Website Link; ComponentLink1URL: https://www.we-online.com/redexpert/article/784778101?ad; ComponentLink2Description: Datasheet Link; ComponentLink2URL: https://www.we-online.com/redexpert/spec/784778101?ad; Mount: Surface Mount; Min Operating Temperature: -40°C; Max Operating Temperature: 125°C; Packaging: Tape and Reel; Length: 7.3mm; Width: 7.3mm; Height: 3.2mm; DC Resistance Max: 720mOhm; Inductance: 100uH; Rated Current: 0.72A
footprint WE-PDA_7332
simulation model 7332_784778101_100u
pins: 1, 2

## 784778102
designator L?, comment 1000uH  (value not drawn)
WE-PDA SMT Shielded Power Inductor, size 7332, 1000uH, 0.23A, 7200mOhm; Manufacturer Part Number: 784778102; Manufacturer: Wurth Elektronik; Case/Size Code: 7332; Saturation Current: 0.25A; Self Resonant Frequency: 2.5MHz; Category: Power Inductors; Match Code: WE-PDA; ComponentLink1Description: Website Link; ComponentLink1URL: https://www.we-online.com/redexpert/article/784778102?ad; ComponentLink2Description: Datasheet Link; ComponentLink2URL: https://www.we-online.com/redexpert/spec/784778102?ad; Mount: Surface Mount; Min Operating Temperature: -40°C; Max Operating Temperature: 125°C; Packaging: Tape and Reel; Length: 7.3mm; Width: 7.3mm; Height: 3.2mm; DC Resistance Max: 7200mOhm; Inductance: 1000uH; Rated Current: 0.23A
footprint WE-PDA_7332
simulation model 7332_784778102_1000u
pins: 1, 2

## 784778220
designator L?, comment 22uH  (value not drawn)
WE-PDA SMT Shielded Power Inductor, size 7332, 22uH, 1.55A, 187mOhm; Manufacturer Part Number: 784778220; Manufacturer: Wurth Elektronik; Case/Size Code: 7332; Saturation Current: 1.6A; Self Resonant Frequency: 17.2MHz; Category: Power Inductors; Match Code: WE-PDA; ComponentLink1Description: Website Link; ComponentLink1URL: https://www.we-online.com/redexpert/article/784778220?ad; ComponentLink2Description: Datasheet Link; ComponentLink2URL: https://www.we-online.com/redexpert/spec/784778220?ad; Mount: Surface Mount; Min Operating Temperature: -40°C; Max Operating Temperature: 125°C; Packaging: Tape and Reel; Length: 7.3mm; Width: 7.3mm; Height: 3.2mm; DC Resistance Max: 187mOhm; Inductance: 22uH; Rated Current: 1.55A
footprint WE-PDA_7332
simulation model 7332_784778220_22u
pins: 1, 2

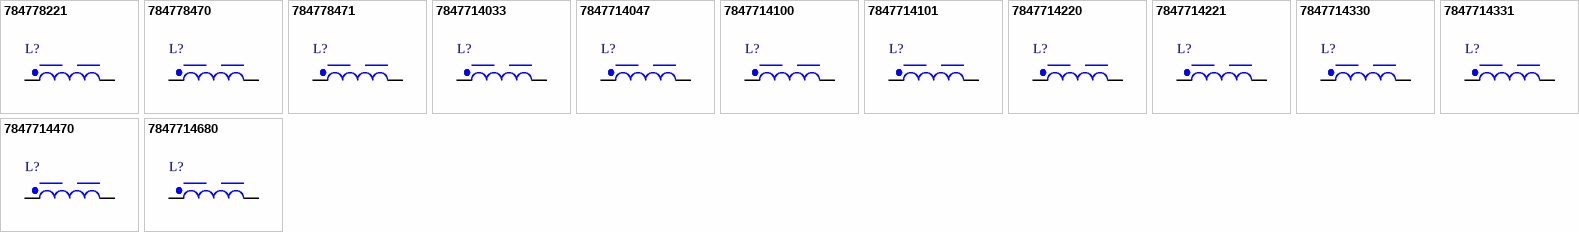
[diagram p1: symbols 784778221 to 7847714680]

## 784778221
designator L?, comment 220uH  (value not drawn)
WE-PDA SMT Shielded Power Inductor, size 7332, 220uH, 0.48A, 1620mOhm; Manufacturer Part Number: 784778221; Manufacturer: Wurth Elektronik; Case/Size Code: 7332; Saturation Current: 0.5A; Self Resonant Frequency: 6.1MHz; Category: Power Inductors; Match Code: WE-PDA; ComponentLink1Description: Website Link; ComponentLink1URL: https://www.we-online.com/redexpert/article/784778221?ad; ComponentLink2Description: Datasheet Link; ComponentLink2URL: https://www.we-online.com/redexpert/spec/784778221?ad; Mount: Surface Mount; Min Operating Temperature: -40°C; Max Operating Temperature: 125°C; Packaging: Tape and Reel; Length: 7.3mm; Width: 7.3mm; Height: 3.2mm; DC Resistance Max: 1620mOhm; Inductance: 220uH; Rated Current: 0.48A
footprint WE-PDA_7332
simulation model 7332_784778221_220u
pins: 1, 2

## 784778470
designator L?, comment 47uH  (value not drawn)
WE-PDA SMT Shielded Power Inductor, size 7332, 47uH, 1.1A, 348mOhm; Manufacturer Part Number: 784778470; Manufacturer: Wurth Elektronik; Case/Size Code: 7332; Saturation Current: 1.05A; Self Resonant Frequency: 13.5MHz; Category: Power Inductors; Match Code: WE-PDA; ComponentLink1Description: Website Link; ComponentLink1URL: https://www.we-online.com/redexpert/article/784778470?ad; ComponentLink2Description: Datasheet Link; ComponentLink2URL: https://www.we-online.com/redexpert/spec/784778470?ad; Mount: Surface Mount; Min Operating Temperature: -40°C; Max Operating Temperature: 125°C; Packaging: Tape and Reel; Length: 7.3mm; Width: 7.3mm; Height: 3.2mm; DC Resistance Max: 348mOhm; Inductance: 47uH; Rated Current: 1.1A
footprint WE-PDA_7332
simulation model 7332_784778470_47u
pins: 1, 2

## 784778471
designator L?, comment 470uH  (value not drawn)
WE-PDA SMT Shielded Power Inductor, size 7332, 470uH, 0.3A, 3300mOhm; Manufacturer Part Number: 784778471; Manufacturer: Wurth Elektronik; Case/Size Code: 7332; Saturation Current: 0.35A; Self Resonant Frequency: 3.9MHz; Category: Power Inductors; Match Code: WE-PDA; ComponentLink1Description: Website Link; ComponentLink1URL: https://www.we-online.com/redexpert/article/784778471?ad; ComponentLink2Description: Datasheet Link; ComponentLink2URL: https://www.we-online.com/redexpert/spec/784778471?ad; Mount: Surface Mount; Min Operating Temperature: -40°C; Max Operating Temperature: 125°C; Packaging: Tape and Reel; Length: 7.3mm; Width: 7.3mm; Height: 3.2mm; DC Resistance Max: 3300mOhm; Inductance: 470uH; Rated Current: 0.3A
footprint WE-PDA_7332
simulation model 7332_784778471_470u
pins: 1, 2

## 7847714033
designator L?, comment 3.3uH  (value not drawn)
WE-PDA SMT Shielded Power Inductor, size 1050, 3.3uH, 7.11A, 15mOhm; Manufacturer Part Number: 7847714033; Manufacturer: Wurth Elektronik; Case/Size Code: 1050; Saturation Current: 9.4A; Self Resonant Frequency: 29MHz; Category: Power Inductors; Match Code: WE-PDA; ComponentLink1Description: Website Link; ComponentLink1URL: https://www.we-online.com/redexpert/article/7847714033?ad; ComponentLink2Description: Datasheet Link; ComponentLink2URL: https://www.we-online.com/redexpert/spec/7847714033?ad; Mount: Surface Mount; Min Operating Temperature: -50°C; Max Operating Temperature: 150°C; Packaging: Tape and Reel; Length: 10mm; Width: 10mm; Height: 5mm; DC Resistance Max: 15mOhm; Inductance: 3.3uH; Rated Current: 7.11A
footprint WE-PDA_1050
simulation model 1050_7847714033_3.3u
pins: 1, 2

## 7847714047
designator L?, comment 4.7uH  (value not drawn)
WE-PDA SMT Shielded Power Inductor, size 1050, 4.7uH, 6.81A, 17mOhm; Manufacturer Part Number: 7847714047; Manufacturer: Wurth Elektronik; Case/Size Code: 1050; Saturation Current: 8.2A; Self Resonant Frequency: 25MHz; Category: Power Inductors; Match Code: WE-PDA; ComponentLink1Description: Website Link; ComponentLink1URL: https://www.we-online.com/redexpert/article/7847714047?ad; ComponentLink2Description: Datasheet Link; ComponentLink2URL: https://www.we-online.com/redexpert/spec/7847714047?ad; Mount: Surface Mount; Min Operating Temperature: -50°C; Max Operating Temperature: 150°C; Packaging: Tape and Reel; Length: 10mm; Width: 10mm; Height: 5mm; DC Resistance Max: 17mOhm; Inductance: 4.7uH; Rated Current: 6.81A
footprint WE-PDA_1050
simulation model 1050_7847714047_4.7u
pins: 1, 2

## 7847714100
designator L?, comment 10uH  (value not drawn)
WE-PDA SMT Shielded Power Inductor, size 1050, 10uH, 5.12A, 32mOhm; Manufacturer Part Number: 7847714100; Manufacturer: Wurth Elektronik; Case/Size Code: 1050; Saturation Current: 5.6A; Self Resonant Frequency: 16.75MHz; Category: Power Inductors; Match Code: WE-PDA; ComponentLink1Description: Website Link; ComponentLink1URL: https://www.we-online.com/redexpert/article/7847714100?ad; ComponentLink2Description: Datasheet Link; ComponentLink2URL: https://www.we-online.com/redexpert/spec/7847714100?ad; Mount: Surface Mount; Min Operating Temperature: -50°C; Max Operating Temperature: 150°C; Packaging: Tape and Reel; Length: 10mm; Width: 10mm; Height: 5mm; DC Resistance Max: 32mOhm; Inductance: 10uH; Rated Current: 5.12A
footprint WE-PDA_1050
simulation model 1050_7847714100_10u
pins: 1, 2

## 7847714101
designator L?, comment 100uH  (value not drawn)
WE-PDA SMT Shielded Power Inductor, size 1050, 100uH, 1.43A, 294mOhm; Manufacturer Part Number: 7847714101; Manufacturer: Wurth Elektronik; Case/Size Code: 1050; Saturation Current: 1.6A; Self Resonant Frequency: 4.4MHz; Category: Power Inductors; Match Code: WE-PDA; ComponentLink1Description: Website Link; ComponentLink1URL: https://www.we-online.com/redexpert/article/7847714101?ad; ComponentLink2Description: Datasheet Link; ComponentLink2URL: https://www.we-online.com/redexpert/spec/7847714101?ad; Mount: Surface Mount; Min Operating Temperature: -50°C; Max Operating Temperature: 150°C; Packaging: Tape and Reel; Length: 10mm; Width: 10mm; Height: 5mm; DC Resistance Max: 294mOhm; Inductance: 100uH; Rated Current: 1.43A
footprint WE-PDA_1050
simulation model 1050_7847714101_100u
pins: 1, 2

## 7847714220
designator L?, comment 22uH  (value not drawn)
WE-PDA SMT Shielded Power Inductor, size 1050, 22uH, 3.13A, 75mOhm; Manufacturer Part Number: 7847714220; Manufacturer: Wurth Elektronik; Case/Size Code: 1050; Saturation Current: 3.7A; Self Resonant Frequency: 9.6MHz; Category: Power Inductors; Match Code: WE-PDA; ComponentLink1Description: Website Link; ComponentLink1URL: https://www.we-online.com/redexpert/article/7847714220?ad; ComponentLink2Description: Datasheet Link; ComponentLink2URL: https://www.we-online.com/redexpert/spec/7847714220?ad; Mount: Surface Mount; Min Operating Temperature: -50°C; Max Operating Temperature: 150°C; Packaging: Tape and Reel; Length: 10mm; Width: 10mm; Height: 5mm; DC Resistance Max: 75mOhm; Inductance: 22uH; Rated Current: 3.13A
footprint WE-PDA_1050
simulation model 1050_7847714220_22u
pins: 1, 2

## 7847714221
designator L?, comment 220uH  (value not drawn)
WE-PDA SMT Shielded Power Inductor, size 1050, 220uH, 1.05A, 708mOhm; Manufacturer Part Number: 7847714221; Manufacturer: Wurth Elektronik; Case/Size Code: 1050; Saturation Current: 1.2A; Self Resonant Frequency: 2.9MHz; Category: Power Inductors; Match Code: WE-PDA; ComponentLink1Description: Website Link; ComponentLink1URL: https://www.we-online.com/redexpert/article/7847714221?ad; ComponentLink2Description: Datasheet Link; ComponentLink2URL: https://www.we-online.com/redexpert/spec/7847714221?ad; Mount: Surface Mount; Min Operating Temperature: -50°C; Max Operating Temperature: 150°C; Packaging: Tape and Reel; Length: 10mm; Width: 10mm; Height: 5mm; DC Resistance Max: 708mOhm; Inductance: 220uH; Rated Current: 1.05A
footprint WE-PDA_1050
simulation model 1050_7847714221_220u
pins: 1, 2

## 7847714330
designator L?, comment 33uH  (value not drawn)
WE-PDA SMT Shielded Power Inductor, size 1050, 33uH, 2.92A, 95mOhm; Manufacturer Part Number: 7847714330; Manufacturer: Wurth Elektronik; Case/Size Code: 1050; Saturation Current: 3A; Self Resonant Frequency: 8.4MHz; Category: Power Inductors; Match Code: WE-PDA; ComponentLink1Description: Website Link; ComponentLink1URL: https://www.we-online.com/redexpert/article/7847714330?ad; ComponentLink2Description: Datasheet Link; ComponentLink2URL: https://www.we-online.com/redexpert/spec/7847714330?ad; Mount: Surface Mount; Min Operating Temperature: -50°C; Max Operating Temperature: 150°C; Packaging: Tape and Reel; Length: 10mm; Width: 10mm; Height: 5mm; DC Resistance Max: 95mOhm; Inductance: 33uH; Rated Current: 2.92A
footprint WE-PDA_1050
simulation model 1050_7847714330_33u
pins: 1, 2

## 7847714331
designator L?, comment 330uH  (value not drawn)
WE-PDA SMT Shielded Power Inductor, size 1050, 330uH, 0.9A, 900mOhm; Manufacturer Part Number: 7847714331; Manufacturer: Wurth Elektronik; Case/Size Code: 1050; Saturation Current: 1A; Self Resonant Frequency: 2.4MHz; Category: Power Inductors; Match Code: WE-PDA; ComponentLink1Description: Website Link; ComponentLink1URL: https://www.we-online.com/redexpert/article/7847714331?ad; ComponentLink2Description: Datasheet Link; ComponentLink2URL: https://www.we-online.com/redexpert/spec/7847714331?ad; Mount: Surface Mount; Min Operating Temperature: -50°C; Max Operating Temperature: 150°C; Packaging: Tape and Reel; Length: 10mm; Width: 10mm; Height: 5mm; DC Resistance Max: 900mOhm; Inductance: 330uH; Rated Current: 0.9A
footprint WE-PDA_1050
simulation model 1050_7847714331_330u
pins: 1, 2

## 7847714470
designator L?, comment 47uH  (value not drawn)
WE-PDA SMT Shielded Power Inductor, size 1050, 47uH, 2.26A, 148mOhm; Manufacturer Part Number: 7847714470; Manufacturer: Wurth Elektronik; Case/Size Code: 1050; Saturation Current: 2.45A; Self Resonant Frequency: 6.4MHz; Category: Power Inductors; Match Code: WE-PDA; ComponentLink1Description: Website Link; ComponentLink1URL: https://www.we-online.com/redexpert/article/7847714470?ad; ComponentLink2Description: Datasheet Link; ComponentLink2URL: https://www.we-online.com/redexpert/spec/7847714470?ad; Mount: Surface Mount; Min Operating Temperature: -50°C; Max Operating Temperature: 150°C; Packaging: Tape and Reel; Length: 10mm; Width: 10mm; Height: 5mm; DC Resistance Max: 148mOhm; Inductance: 47uH; Rated Current: 2.26A
footprint WE-PDA_1050
simulation model 1050_7847714470_47u
pins: 1, 2

## 7847714680
designator L?, comment 68uH  (value not drawn)
WE-PDA SMT Shielded Power Inductor, size 1050, 68uH, 1.85A, 176.4mOhm; Manufacturer Part Number: 7847714680; Manufacturer: Wurth Elektronik; Case/Size Code: 1050; Saturation Current: 1.9A; Self Resonant Frequency: 5.53MHz; Category: Power Inductors; Match Code: WE-PDA; ComponentLink1Description: Website Link; ComponentLink1URL: https://www.we-online.com/redexpert/article/7847714680?ad; ComponentLink2Description: Datasheet Link; ComponentLink2URL: https://www.we-online.com/redexpert/spec/7847714680?ad; Mount: Surface Mount; Min Operating Temperature: -50°C; Max Operating Temperature: 150°C; Packaging: Tape and Reel; Length: 10mm; Width: 10mm; Height: 5mm; DC Resistance Max: 176.4mOhm; Inductance: 68uH; Rated Current: 1.85A
footprint WE-PDA_1050
simulation model 1050_7847714680_68u
pins: 1, 2